# EAGLE library part ISPG22V10 (library my_relai)
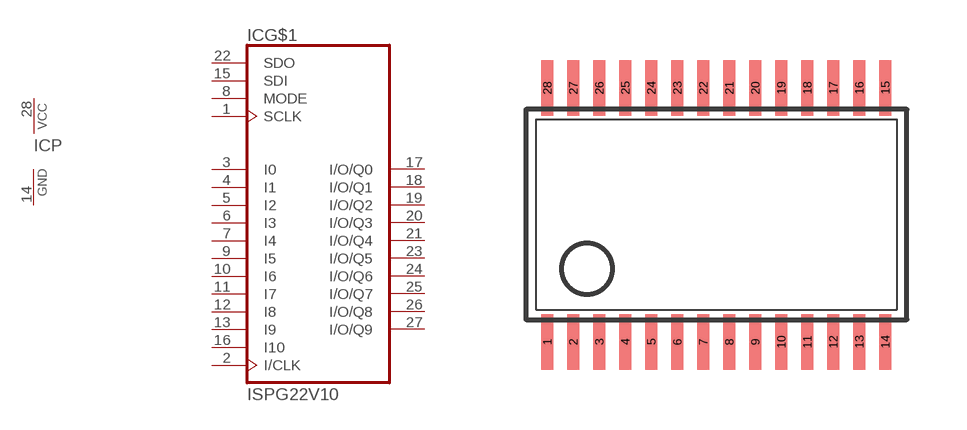
[diagram p3: symbol with the pads of SSOP28; footprint SSOP28]

Designator prefix IC; gates G$1=ISPG22V1 P=PWRN

## ISPG22V10  [SSOP28]
1  G$1:SCLK  in
2  G$1:I/CLK  in
3  G$1:I0  in
4  G$1:I1  in
5  G$1:I2  in
6  G$1:I3  in
7  G$1:I4  in
8  G$1:MODE  in
9  G$1:I5  in
10  G$1:I6  in
11  G$1:I7  in
12  G$1:I8  in
13  G$1:I9  in
14  P:GND  pwr
15  G$1:SDI  in
16  G$1:I10  in
17  G$1:I/O/Q0
18  G$1:I/O/Q1
19  G$1:I/O/Q2
20  G$1:I/O/Q3
21  G$1:I/O/Q4
22  G$1:SDO  out
23  G$1:I/O/Q5
24  G$1:I/O/Q6
25  G$1:I/O/Q7
26  G$1:I/O/Q8
27  G$1:I/O/Q9
28  P:VCC  pwr

## Footprint SSOP28 (pad centres in mm)
smd 0.305 x 1.397: 1 -4.55,-3.25; 2 -3.9,-3.25; 3 -3.25,-3.25; 4 -2.6,-3.25; 5 -1.95,-3.25; 6 -1.3,-3.25; 7 -0.65,-3.25; 8 0,-3.25; 9 0.65,-3.25; 10 1.3,-3.25; 11 1.95,-3.25; 12 2.6,-3.25; 13 3.25,-3.25; 14 3.9,-3.25; 15 3.9,3.1; 16 3.25,3.1; 17 2.6,3.1; 18 1.95,3.1; 19 1.3,3.1; 20 0.65,3.1; 21 0,3.1; 22 -0.65,3.1; 23 -1.3,3.1; 24 -1.95,3.1; 25 -2.6,3.1; 26 -3.25,3.1; 27 -3.9,3.1; 28 -4.55,3.1